# Altium schematic symbol library C311983.SchLib: 1 symbol
Pins are listed as number, name and electrical type; pins without a type are passive.

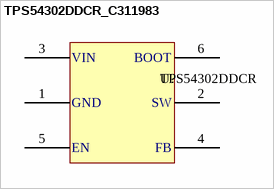
[diagram p0: symbol TPS54302DDCR_C311983]

## TPS54302DDCR_C311983
designator U?, comment TPS54302DDCR
Buck Switching Regulator IC Adjustable 1 Output 3A TSOT-23-6; Name: C311983; Source: LCSC
footprint SOT-23-6_L2.9-W1.6-P0.95-LS2.8-BL (Buck Switching Regulator IC Adjustable 1 Output 3A TSOT-23-6)
pins: 1 GND, 2 SW, 3 VIN, 4 FB, 5 EN, 6 BOOT